# EAGLE library part ITDB02-2.8 (library BaseApp)
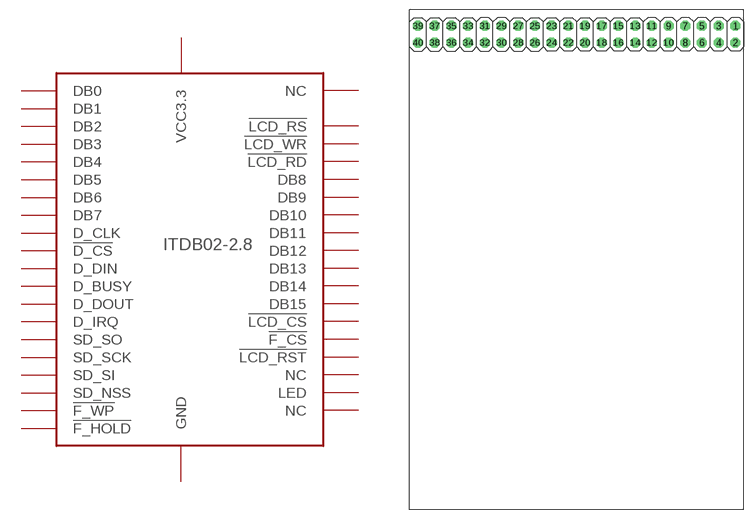
[diagram p48: symbol with the pads of ITDB02-2.8; footprint ITDB02-2.8]

Designator prefix ITDB02-2.8

## ITDB02-2.8  [ITDB02-2.8]
1  GND
2  DB0
3  VCC3.3
4  DB1
5  NC
6  DB2
7  !LCD_RS
8  DB3
9  !LCD_WR
10  DB4
11  !LCD_RD
12  DB5
13  DB8
14  DB6
15  DB9
16  DB7
17  DB10
18  D_CLK
19  DB11
20  !D_CS
21  DB12
22  D_DIN
23  DB13
24  D_BUSY
25  DB14
26  D_DOUT
27  DB15
28  D_IRQ
29  !LCD_CS
30  SD_SO
31  !F_CS
32  SD_SCK
33  !LCD_RST
34  SD_SI
35  NC
36  SD_NSS
37  LED
38  !F_WP
39  NC
40  !F_HOLD

## Footprint ITDB02-2.8 (pad centres in mm)
drill 1.016 octagon: 1 24.13,31.75; 2 24.13,29.21; 3 21.59,31.75; 4 21.59,29.21; 5 19.05,31.75; 6 19.05,29.21; 7 16.51,31.75; 8 16.51,29.21; 9 13.97,31.75; 10 13.97,29.21; 11 11.43,31.75; 12 11.43,29.21; 13 8.89,31.75; 14 8.89,29.21; 15 6.35,31.75; 16 6.35,29.21; 17 3.81,31.75; 18 3.81,29.21; 19 1.27,31.75; 20 1.27,29.21; 21 -1.27,31.75; 22 -1.27,29.21; 23 -3.81,31.75; 24 -3.81,29.21; 25 -6.35,31.75; 26 -6.35,29.21; 27 -8.89,31.75; 28 -8.89,29.21; 29 -11.43,31.75; 30 -11.43,29.21; 31 -13.97,31.75; 32 -13.97,29.21; 33 -16.51,31.75; 34 -16.51,29.21; 35 -19.05,31.75; 36 -19.05,29.21; 37 -21.59,31.75; 38 -21.59,29.21; 39 -24.13,31.75; 40 -24.13,29.21